# EAGLE library part ADS7810P (library burr-brown)
12-Bit 800 kSPS ADC
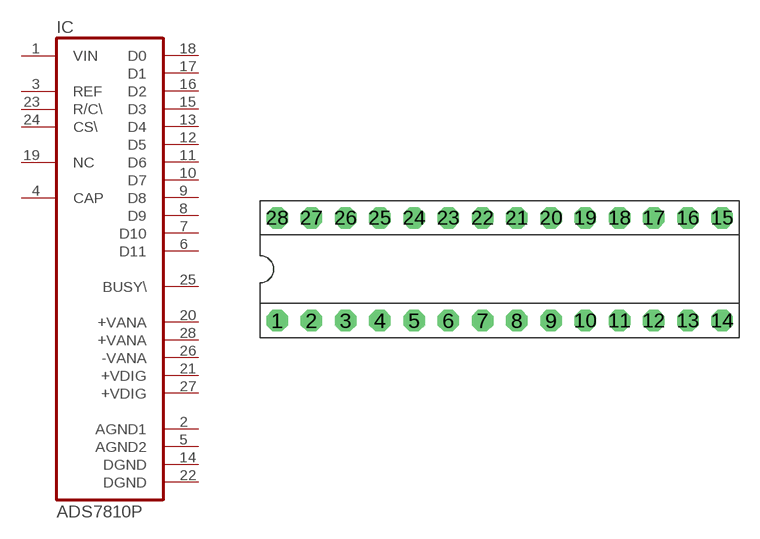
[diagram p35: symbol with the pads of DIP-28/3; footprint DIP-28/3]

Designator prefix IC

## ADS7810P  [DIP-28/3]
1  VIN  in
2  AGND1  pwr
3  REF
4  CAP  pas
5  AGND2  pwr
6  D11  out
7  D10  out
8  D9  out
9  D8  out
10  D7  out
11  D6  out
12  D5  out
13  D4  out
14  DGND  pwr
15  D3  out
16  D2  out
17  D1  out
18  D0  out
19  NC  nc
20  +VANA  pwr
21  +VDIG  pwr
22  DGND  pwr
23  R/C\  in
24  CS\  in
25  BUSY\  out
26  -VANA  pwr
27  +VDIG  pwr
28  +VANA  pwr

## Footprint DIP-28/3 (pad centres in mm)
drill 0.813 pad 1.6 octagon: 1 -16.51,-3.81; 2 -13.97,-3.81; 3 -11.43,-3.81; 4 -8.89,-3.81; 5 -6.35,-3.81; 6 -3.81,-3.81; 7 -1.27,-3.81; 8 1.27,-3.81; 9 3.81,-3.81; 10 6.35,-3.81; 11 8.89,-3.81; 12 11.43,-3.81; 13 13.97,-3.81; 14 16.51,-3.81; 15 16.51,3.81; 16 13.97,3.81; 17 11.43,3.81; 18 8.89,3.81; 19 6.35,3.81; 20 3.81,3.81; 21 1.27,3.81; 22 -1.27,3.81; 23 -3.81,3.81; 24 -6.35,3.81; 25 -8.89,3.81; 26 -11.43,3.81; 27 -13.97,3.81; 28 -16.51,3.81